# EAGLE library part MICROSD (library microsd)
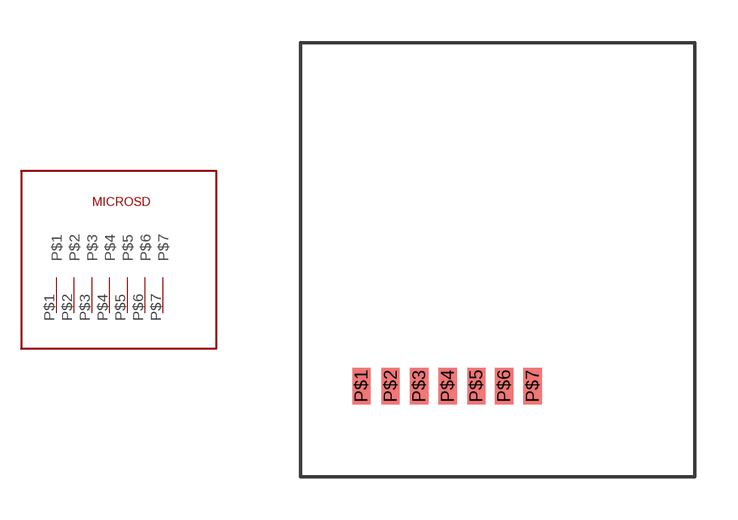
[diagram p0: symbol with the pads of MICROSD; footprint MICROSD]

Designator prefix -

## MICROSD  [MICROSD]
P$1  P$1
P$2  P$2
P$3  P$3
P$4  P$4
P$5  P$5
P$6  P$6
P$7  P$7

## Footprint MICROSD (pad centres in mm)
smd 0.635 x 1.27: P$1 -4.775,3.175; P$2 -3.75,3.175; P$3 -2.75,3.175; P$4 -1.75,3.175; P$5 -0.75,3.175; P$6 0.225,3.175; P$7 1.225,3.175